# Altium footprint library Mounting_Wuerth.PcbLib: 191 footprints (part 5 of 12)
Each footprint in its own frame and in the unit in brackets; x right, y up, seen from the top. Pads: shape width x height; smd on the part's side, far side on the other; paste and mask are expansions set on the pad; w line width, h text height; cw(c..) or ccw(c..) is an arc to the next point about the centre after c.
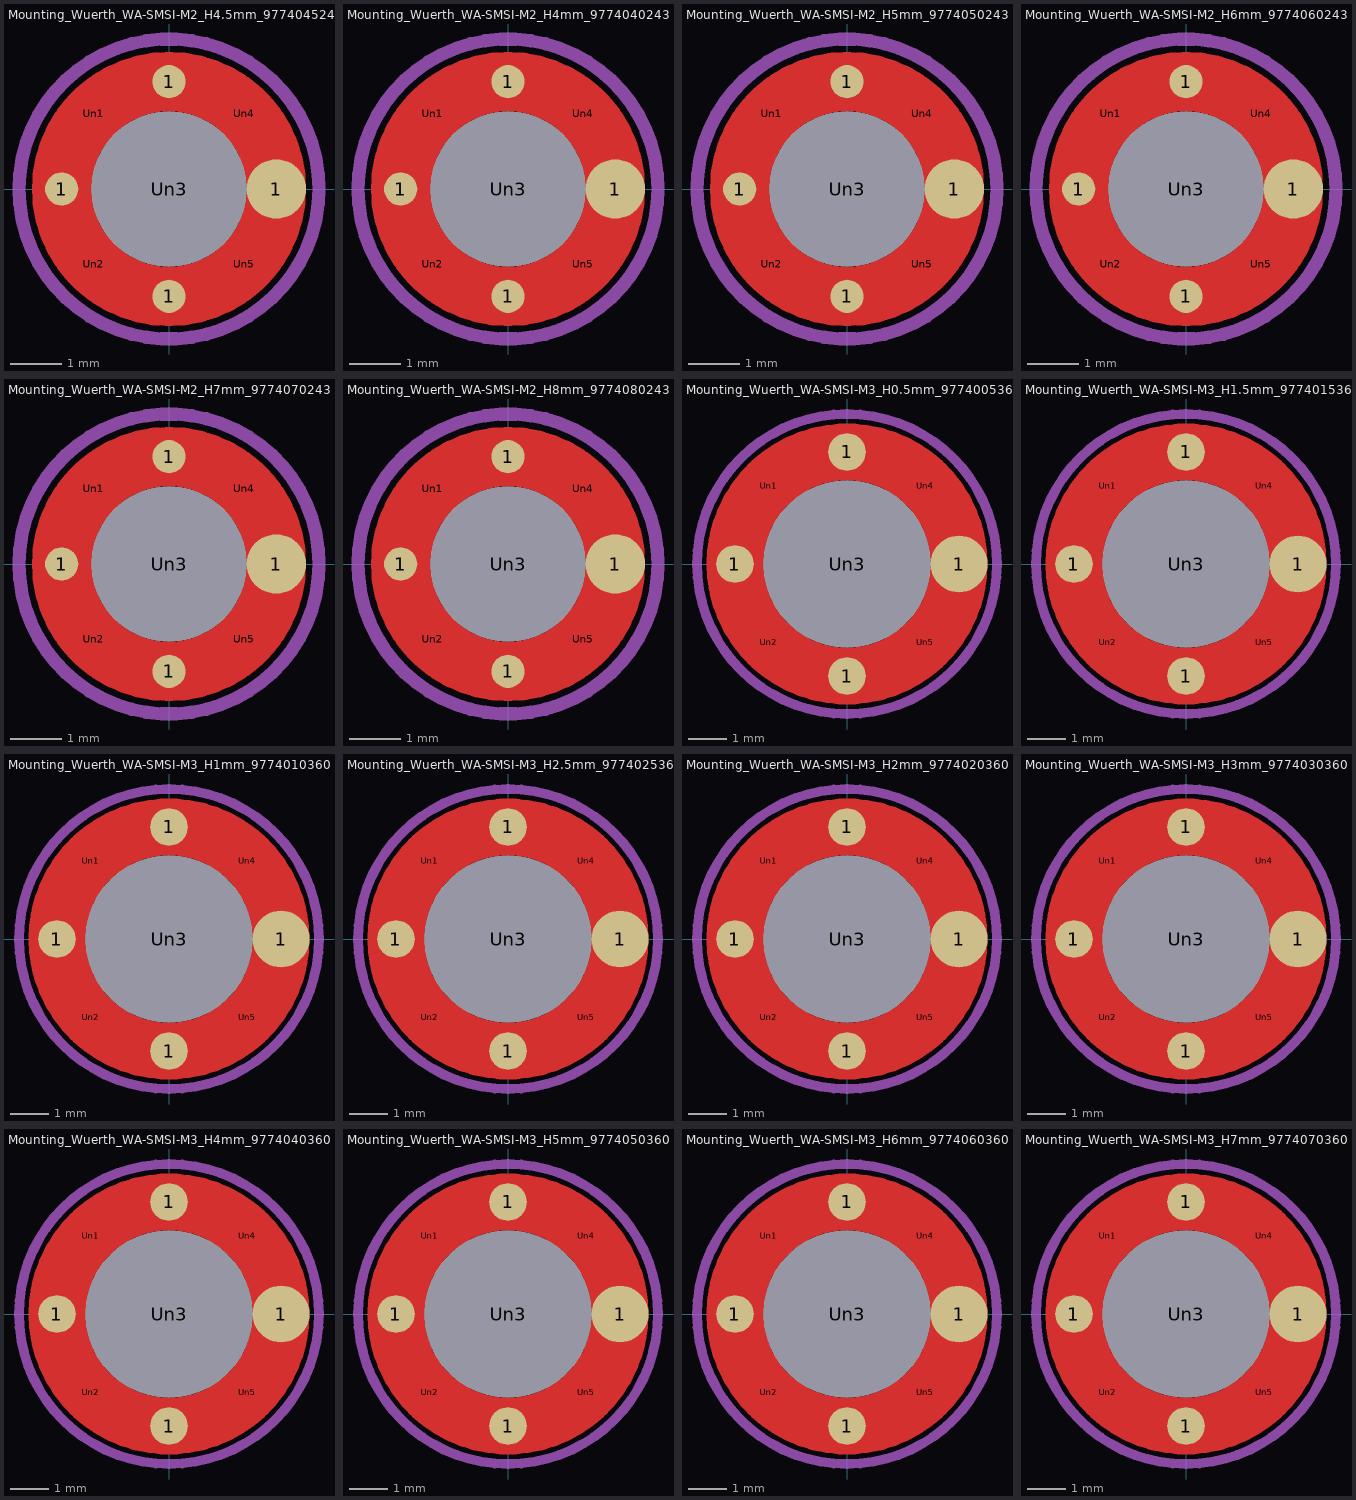
[diagram p4: the footprints below, top view; thin cyan lines are the x and y axes]

## Mounting_Wuerth_WA-SMSI-M2_H4.5mm_9774045243 [mm]
pads (9):
  round 0.642 smd: 1(-2.075,0) 1(0,-2.075) 1(0,2.075)
  round 1.15 smd: 1(2.075,0)
  round 0.505 on Top Paste: Un1(-1.453,1.453) Un2(-1.453,-1.453) Un4(1.453,1.453) Un5(1.453,-1.453)
  round 3 hole 3: Un3(0,0)
F.Cu:
  circle w1.15: c0,0 r2.075
F.Paste:
  lines w0.2: -2.427,-0.4 -1.601,-0.4 ; -2.427,0.4 -1.601,0.4 ; -0.4,-2.427 -0.4,-1.601 ; -0.4,1.601 -0.4,2.427 ; 0.4,-2.427 0.4,-1.601 ; 0.4,1.601 0.4,2.427 ; 1.601,-0.4 2.427,-0.4 ; 1.601,0.4 2.427,0.4
F.Mask:
  circle w1.15: c0,0 r2.075
Top Assembly:
  circle w0.254: c0,0 r2.175
  text "'.Designator'" at -4.047,-0.84 h1
Top Courtyard:
  circle w0.254: c0,0 r2.9
Top Designator:
  text ".Designator" at -7.768,-0.508 h1.52
3D body "Mounting_Wuerth_WA-SMSI-M2_H4.5mm_9774045243.step": height 4.5, standoff -1.4, extent -2.175,-2.172 2.175,2.172

## Mounting_Wuerth_WA-SMSI-M2_H4mm_9774040243 [mm]
pads (9):
  round 0.642 smd: 1(-2.075,0) 1(0,-2.075) 1(0,2.075)
  round 1.15 smd: 1(2.075,0)
  round 0.505 on Top Paste: Un1(-1.453,1.453) Un2(-1.453,-1.453) Un4(1.453,1.453) Un5(1.453,-1.453)
  round 3 hole 3: Un3(0,0)
F.Cu:
  circle w1.15: c0,0 r2.075
F.Paste:
  lines w0.2: -2.427,-0.4 -1.601,-0.4 ; -2.427,0.4 -1.601,0.4 ; -0.4,-2.427 -0.4,-1.601 ; -0.4,1.601 -0.4,2.427 ; 0.4,-2.427 0.4,-1.601 ; 0.4,1.601 0.4,2.427 ; 1.601,-0.4 2.427,-0.4 ; 1.601,0.4 2.427,0.4
F.Mask:
  circle w1.15: c0,0 r2.075
Top Assembly:
  circle w0.254: c0,0 r2.175
  text "'.Designator'" at -4.047,-0.84 h1
Top Courtyard:
  circle w0.254: c0,0 r2.9
Top Designator:
  text ".Designator" at -7.768,-0.508 h1.52
3D body "Mounting_Wuerth_WA-SMSI-M2_H4mm_9774040243.step": height 4, standoff -1.4, extent -2.175,-2.172 2.175,2.172

## Mounting_Wuerth_WA-SMSI-M2_H5mm_9774050243 [mm]
pads (9):
  round 0.642 smd: 1(-2.075,0) 1(0,-2.075) 1(0,2.075)
  round 1.15 smd: 1(2.075,0)
  round 0.505 on Top Paste: Un1(-1.453,1.453) Un2(-1.453,-1.453) Un4(1.453,1.453) Un5(1.453,-1.453)
  round 3 hole 3: Un3(0,0)
F.Cu:
  circle w1.15: c0,0 r2.075
F.Paste:
  lines w0.2: -2.427,-0.4 -1.601,-0.4 ; -2.427,0.4 -1.601,0.4 ; -0.4,-2.427 -0.4,-1.601 ; -0.4,1.601 -0.4,2.427 ; 0.4,-2.427 0.4,-1.601 ; 0.4,1.601 0.4,2.427 ; 1.601,-0.4 2.427,-0.4 ; 1.601,0.4 2.427,0.4
F.Mask:
  circle w1.15: c0,0 r2.075
Top Assembly:
  circle w0.254: c0,0 r2.175
  text "'.Designator'" at -4.047,-0.84 h1
Top Courtyard:
  circle w0.254: c0,0 r2.9
Top Designator:
  text ".Designator" at -7.768,-0.508 h1.52
3D body "Mounting_Wuerth_WA-SMSI-M2_H5mm_9774050243.step": height 5, standoff -1.4, extent -2.175,-2.172 2.175,2.172

## Mounting_Wuerth_WA-SMSI-M2_H6mm_9774060243 [mm]
pads (9):
  round 0.642 smd: 1(-2.075,0) 1(0,-2.075) 1(0,2.075)
  round 1.15 smd: 1(2.075,0)
  round 0.505 on Top Paste: Un1(-1.453,1.453) Un2(-1.453,-1.453) Un4(1.453,1.453) Un5(1.453,-1.453)
  round 3 hole 3: Un3(0,0)
F.Cu:
  circle w1.15: c0,0 r2.075
F.Paste:
  lines w0.2: -2.427,-0.4 -1.601,-0.4 ; -2.427,0.4 -1.601,0.4 ; -0.4,-2.427 -0.4,-1.601 ; -0.4,1.601 -0.4,2.427 ; 0.4,-2.427 0.4,-1.601 ; 0.4,1.601 0.4,2.427 ; 1.601,-0.4 2.427,-0.4 ; 1.601,0.4 2.427,0.4
F.Mask:
  circle w1.15: c0,0 r2.075
Top Assembly:
  circle w0.254: c0,0 r2.175
  text "'.Designator'" at -4.047,-0.84 h1
Top Courtyard:
  circle w0.254: c0,0 r2.9
Top Designator:
  text ".Designator" at -7.768,-0.508 h1.52
3D body "Mounting_Wuerth_WA-SMSI-M2_H6mm_9774060243.step": height 6, standoff -1.4, extent -2.175,-2.172 2.175,2.172

## Mounting_Wuerth_WA-SMSI-M2_H7mm_9774070243 [mm]
pads (9):
  round 0.642 smd: 1(-2.075,0) 1(0,-2.075) 1(0,2.075)
  round 1.15 smd: 1(2.075,0)
  round 0.505 on Top Paste: Un1(-1.453,1.453) Un2(-1.453,-1.453) Un4(1.453,1.453) Un5(1.453,-1.453)
  round 3 hole 3: Un3(0,0)
F.Cu:
  circle w1.15: c0,0 r2.075
F.Paste:
  lines w0.2: -2.427,-0.4 -1.601,-0.4 ; -2.427,0.4 -1.601,0.4 ; -0.4,-2.427 -0.4,-1.601 ; -0.4,1.601 -0.4,2.427 ; 0.4,-2.427 0.4,-1.601 ; 0.4,1.601 0.4,2.427 ; 1.601,-0.4 2.427,-0.4 ; 1.601,0.4 2.427,0.4
F.Mask:
  circle w1.15: c0,0 r2.075
Top Assembly:
  circle w0.254: c0,0 r2.175
  text "'.Designator'" at -4.047,-0.84 h1
Top Courtyard:
  circle w0.254: c0,0 r2.9
Top Designator:
  text ".Designator" at -7.768,-0.508 h1.52
3D body "Mounting_Wuerth_WA-SMSI-M2_H7mm_9774070243.step": height 7, standoff -1.4, extent -2.175,-2.172 2.175,2.172

## Mounting_Wuerth_WA-SMSI-M2_H8mm_9774080243 [mm]
pads (9):
  round 0.642 smd: 1(-2.075,0) 1(0,-2.075) 1(0,2.075)
  round 1.15 smd: 1(2.075,0)
  round 0.505 on Top Paste: Un1(-1.453,1.453) Un2(-1.453,-1.453) Un4(1.453,1.453) Un5(1.453,-1.453)
  round 3 hole 3: Un3(0,0)
F.Cu:
  circle w1.15: c0,0 r2.075
F.Paste:
  lines w0.2: -2.427,-0.4 -1.601,-0.4 ; -2.427,0.4 -1.601,0.4 ; -0.4,-2.427 -0.4,-1.601 ; -0.4,1.601 -0.4,2.427 ; 0.4,-2.427 0.4,-1.601 ; 0.4,1.601 0.4,2.427 ; 1.601,-0.4 2.427,-0.4 ; 1.601,0.4 2.427,0.4
F.Mask:
  circle w1.15: c0,0 r2.075
Top Assembly:
  circle w0.254: c0,0 r2.175
  text "'.Designator'" at -4.047,-0.84 h1
Top Courtyard:
  circle w0.254: c0,0 r2.9
Top Designator:
  text ".Designator" at -7.768,-0.508 h1.52
3D body "Mounting_Wuerth_WA-SMSI-M2_H8mm_9774080243.step": height 8, standoff -1.4, extent -2.175,-2.172 2.175,2.172

## Mounting_Wuerth_WA-SMSI-M3_H0.5mm_9774005360 [mm]
pads (9):
  round 0.992 smd: 1(-2.95,0) 1(0,-2.95) 1(0,2.95)
  round 1.5 smd: 1(2.95,0)
  round 0.55 on Top Paste: Un1(-2.058,2.058) Un2(-2.058,-2.058) Un4(2.058,2.058) Un5(2.058,-2.058)
  round 4.4 hole 4.4: Un3(0,0)
F.Cu:
  circle w1.5: c0,0 r2.95
F.Paste:
  lines w0.2: -3.342,-0.35 -2.435,-0.35 ; -3.342,0.35 -2.435,0.35 ; -0.35,-3.342 -0.35,-2.435 ; -0.35,2.435 -0.35,3.342 ; 0.35,-3.342 0.35,-2.435 ; 0.35,2.435 0.35,3.342 ; 2.435,-0.35 3.342,-0.35 ; 2.435,0.35 3.342,0.35
F.Mask:
  circle w1.5: c0,0 r2.95
Top Assembly:
  circle w0.254: c0,0 r3
  text "'.Designator'" at -4.047,-0.84 h1
Top Courtyard:
  circle w0.254: c0,0 r3.95
Top Designator:
  text ".Designator" at -7.677,-0.508 h1.52

## Mounting_Wuerth_WA-SMSI-M3_H1.5mm_9774015360 [mm]
pads (9):
  round 0.992 smd: 1(-2.95,0) 1(0,-2.95) 1(0,2.95)
  round 1.5 smd: 1(2.95,0)
  round 0.55 on Top Paste: Un1(-2.058,2.058) Un2(-2.058,-2.058) Un4(2.058,2.058) Un5(2.058,-2.058)
  round 4.4 hole 4.4: Un3(0,0)
F.Cu:
  circle w1.5: c0,0 r2.95
F.Paste:
  lines w0.2: -3.342,-0.35 -2.435,-0.35 ; -3.342,0.35 -2.435,0.35 ; -0.35,-3.342 -0.35,-2.435 ; -0.35,2.435 -0.35,3.342 ; 0.35,-3.342 0.35,-2.435 ; 0.35,2.435 0.35,3.342 ; 2.435,-0.35 3.342,-0.35 ; 2.435,0.35 3.342,0.35
F.Mask:
  circle w1.5: c0,0 r2.95
Top Assembly:
  circle w0.254: c0,0 r3
  text "'.Designator'" at -4.047,-0.84 h1
Top Courtyard:
  circle w0.254: c0,0 r3.95
Top Designator:
  text ".Designator" at -7.677,-0.508 h1.52
3D body "Mounting_Wuerth_WA-SMSI-M3_H1.5mm_9774015360.step": height 1.5, standoff -1.4, extent -3,-3 3,3

## Mounting_Wuerth_WA-SMSI-M3_H1mm_9774010360 [mm]
pads (9):
  round 0.992 smd: 1(-2.95,0) 1(0,-2.95) 1(0,2.95)
  round 1.5 smd: 1(2.95,0)
  round 0.55 on Top Paste: Un1(-2.058,2.058) Un2(-2.058,-2.058) Un4(2.058,2.058) Un5(2.058,-2.058)
  round 4.4 hole 4.4: Un3(0,0)
F.Cu:
  circle w1.5: c0,0 r2.95
F.Paste:
  lines w0.2: -3.342,-0.35 -2.435,-0.35 ; -3.342,0.35 -2.435,0.35 ; -0.35,-3.342 -0.35,-2.435 ; -0.35,2.435 -0.35,3.342 ; 0.35,-3.342 0.35,-2.435 ; 0.35,2.435 0.35,3.342 ; 2.435,-0.35 3.342,-0.35 ; 2.435,0.35 3.342,0.35
F.Mask:
  circle w1.5: c0,0 r2.95
Top Assembly:
  circle w0.254: c0,0 r3
  text "'.Designator'" at -4.047,-0.84 h1
Top Courtyard:
  circle w0.254: c0,0 r3.95
Top Designator:
  text ".Designator" at -7.677,-0.508 h1.52
3D body "Mounting_Wuerth_WA-SMSI-M3_H1mm_9774010360.step": height 1, standoff -1.4, extent -3,-3 3,3

## Mounting_Wuerth_WA-SMSI-M3_H2.5mm_9774025360 [mm]
pads (9):
  round 0.992 smd: 1(-2.95,0) 1(0,-2.95) 1(0,2.95)
  round 1.5 smd: 1(2.95,0)
  round 0.55 on Top Paste: Un1(-2.058,2.058) Un2(-2.058,-2.058) Un4(2.058,2.058) Un5(2.058,-2.058)
  round 4.4 hole 4.4: Un3(0,0)
F.Cu:
  circle w1.5: c0,0 r2.95
F.Paste:
  lines w0.2: -3.342,-0.35 -2.435,-0.35 ; -3.342,0.35 -2.435,0.35 ; -0.35,-3.342 -0.35,-2.435 ; -0.35,2.435 -0.35,3.342 ; 0.35,-3.342 0.35,-2.435 ; 0.35,2.435 0.35,3.342 ; 2.435,-0.35 3.342,-0.35 ; 2.435,0.35 3.342,0.35
F.Mask:
  circle w1.5: c0,0 r2.95
Top Assembly:
  circle w0.254: c0,0 r3
  text "'.Designator'" at -4.047,-0.84 h1
Top Courtyard:
  circle w0.254: c0,0 r3.95
Top Designator:
  text ".Designator" at -7.677,-0.508 h1.52
3D body "Mounting_Wuerth_WA-SMSI-M3_H2.5mm_9774025360.step": height 2.5, standoff -1.4, extent -3,-3 3,3

## Mounting_Wuerth_WA-SMSI-M3_H2mm_9774020360 [mm]
pads (9):
  round 0.992 smd: 1(-2.95,0) 1(0,-2.95) 1(0,2.95)
  round 1.5 smd: 1(2.95,0)
  round 0.55 on Top Paste: Un1(-2.058,2.058) Un2(-2.058,-2.058) Un4(2.058,2.058) Un5(2.058,-2.058)
  round 4.4 hole 4.4: Un3(0,0)
F.Cu:
  circle w1.5: c0,0 r2.95
F.Paste:
  lines w0.2: -3.342,-0.35 -2.435,-0.35 ; -3.342,0.35 -2.435,0.35 ; -0.35,-3.342 -0.35,-2.435 ; -0.35,2.435 -0.35,3.342 ; 0.35,-3.342 0.35,-2.435 ; 0.35,2.435 0.35,3.342 ; 2.435,-0.35 3.342,-0.35 ; 2.435,0.35 3.342,0.35
F.Mask:
  circle w1.5: c0,0 r2.95
Top Assembly:
  circle w0.254: c0,0 r3
  text "'.Designator'" at -4.047,-0.84 h1
Top Courtyard:
  circle w0.254: c0,0 r3.95
Top Designator:
  text ".Designator" at -7.677,-0.508 h1.52
3D body "Mounting_Wuerth_WA-SMSI-M3_H2mm_9774020360.step": height 2, standoff -1.4, extent -3,-3 3,3

## Mounting_Wuerth_WA-SMSI-M3_H3mm_9774030360 [mm]
pads (9):
  round 0.992 smd: 1(-2.95,0) 1(0,-2.95) 1(0,2.95)
  round 1.5 smd: 1(2.95,0)
  round 0.55 on Top Paste: Un1(-2.058,2.058) Un2(-2.058,-2.058) Un4(2.058,2.058) Un5(2.058,-2.058)
  round 4.4 hole 4.4: Un3(0,0)
F.Cu:
  circle w1.5: c0,0 r2.95
F.Paste:
  lines w0.2: -3.342,-0.35 -2.435,-0.35 ; -3.342,0.35 -2.435,0.35 ; -0.35,-3.342 -0.35,-2.435 ; -0.35,2.435 -0.35,3.342 ; 0.35,-3.342 0.35,-2.435 ; 0.35,2.435 0.35,3.342 ; 2.435,-0.35 3.342,-0.35 ; 2.435,0.35 3.342,0.35
F.Mask:
  circle w1.5: c0,0 r2.95
Top Assembly:
  circle w0.254: c0,0 r3
  text "'.Designator'" at -4.047,-0.84 h1
Top Courtyard:
  circle w0.254: c0,0 r3.95
Top Designator:
  text ".Designator" at -7.677,-0.508 h1.52
3D body "Mounting_Wuerth_WA-SMSI-M3_H3mm_9774030360.step": height 3, standoff -1.4, extent -3,-3 3,3

## Mounting_Wuerth_WA-SMSI-M3_H4mm_9774040360 [mm]
pads (9):
  round 0.992 smd: 1(-2.95,0) 1(0,-2.95) 1(0,2.95)
  round 1.5 smd: 1(2.95,0)
  round 0.55 on Top Paste: Un1(-2.058,2.058) Un2(-2.058,-2.058) Un4(2.058,2.058) Un5(2.058,-2.058)
  round 4.4 hole 4.4: Un3(0,0)
F.Cu:
  circle w1.5: c0,0 r2.95
F.Paste:
  lines w0.2: -3.342,-0.35 -2.435,-0.35 ; -3.342,0.35 -2.435,0.35 ; -0.35,-3.342 -0.35,-2.435 ; -0.35,2.435 -0.35,3.342 ; 0.35,-3.342 0.35,-2.435 ; 0.35,2.435 0.35,3.342 ; 2.435,-0.35 3.342,-0.35 ; 2.435,0.35 3.342,0.35
F.Mask:
  circle w1.5: c0,0 r2.95
Top Assembly:
  circle w0.254: c0,0 r3
  text "'.Designator'" at -4.047,-0.84 h1
Top Courtyard:
  circle w0.254: c0,0 r3.95
Top Designator:
  text ".Designator" at -7.677,-0.508 h1.52
3D body "Mounting_Wuerth_WA-SMSI-M3_H4mm_9774040360.step": height 4, standoff -1.4, extent -3,-3 3,3

## Mounting_Wuerth_WA-SMSI-M3_H5mm_9774050360 [mm]
pads (9):
  round 0.992 smd: 1(-2.95,0) 1(0,-2.95) 1(0,2.95)
  round 1.5 smd: 1(2.95,0)
  round 0.55 on Top Paste: Un1(-2.058,2.058) Un2(-2.058,-2.058) Un4(2.058,2.058) Un5(2.058,-2.058)
  round 4.4 hole 4.4: Un3(0,0)
F.Cu:
  circle w1.5: c0,0 r2.95
F.Paste:
  lines w0.2: -3.342,-0.35 -2.435,-0.35 ; -3.342,0.35 -2.435,0.35 ; -0.35,-3.342 -0.35,-2.435 ; -0.35,2.435 -0.35,3.342 ; 0.35,-3.342 0.35,-2.435 ; 0.35,2.435 0.35,3.342 ; 2.435,-0.35 3.342,-0.35 ; 2.435,0.35 3.342,0.35
F.Mask:
  circle w1.5: c0,0 r2.95
Top Assembly:
  circle w0.254: c0,0 r3
  text "'.Designator'" at -4.047,-0.84 h1
Top Courtyard:
  circle w0.254: c0,0 r3.95
Top Designator:
  text ".Designator" at -7.677,-0.508 h1.52
3D body "Mounting_Wuerth_WA-SMSI-M3_H5mm_9774050360.step": height 5, standoff -1.4, extent -3,-3 3,3

## Mounting_Wuerth_WA-SMSI-M3_H6mm_9774060360 [mm]
pads (9):
  round 0.992 smd: 1(-2.95,0) 1(0,-2.95) 1(0,2.95)
  round 1.5 smd: 1(2.95,0)
  round 0.55 on Top Paste: Un1(-2.058,2.058) Un2(-2.058,-2.058) Un4(2.058,2.058) Un5(2.058,-2.058)
  round 4.4 hole 4.4: Un3(0,0)
F.Cu:
  circle w1.5: c0,0 r2.95
F.Paste:
  lines w0.2: -3.342,-0.35 -2.435,-0.35 ; -3.342,0.35 -2.435,0.35 ; -0.35,-3.342 -0.35,-2.435 ; -0.35,2.435 -0.35,3.342 ; 0.35,-3.342 0.35,-2.435 ; 0.35,2.435 0.35,3.342 ; 2.435,-0.35 3.342,-0.35 ; 2.435,0.35 3.342,0.35
F.Mask:
  circle w1.5: c0,0 r2.95
Top Assembly:
  circle w0.254: c0,0 r3
  text "'.Designator'" at -4.047,-0.84 h1
Top Courtyard:
  circle w0.254: c0,0 r3.95
Top Designator:
  text ".Designator" at -7.677,-0.508 h1.52
3D body "Mounting_Wuerth_WA-SMSI-M3_H6mm_9774060360.step": height 6, standoff -1.4, extent -3,-3 3,3

## Mounting_Wuerth_WA-SMSI-M3_H7mm_9774070360 [mm]
pads (9):
  round 0.992 smd: 1(-2.95,0) 1(0,-2.95) 1(0,2.95)
  round 1.5 smd: 1(2.95,0)
  round 0.55 on Top Paste: Un1(-2.058,2.058) Un2(-2.058,-2.058) Un4(2.058,2.058) Un5(2.058,-2.058)
  round 4.4 hole 4.4: Un3(0,0)
F.Cu:
  circle w1.5: c0,0 r2.95
F.Paste:
  lines w0.2: -3.342,-0.35 -2.435,-0.35 ; -3.342,0.35 -2.435,0.35 ; -0.35,-3.342 -0.35,-2.435 ; -0.35,2.435 -0.35,3.342 ; 0.35,-3.342 0.35,-2.435 ; 0.35,2.435 0.35,3.342 ; 2.435,-0.35 3.342,-0.35 ; 2.435,0.35 3.342,0.35
F.Mask:
  circle w1.5: c0,0 r2.95
Top Assembly:
  circle w0.254: c0,0 r3
  text "'.Designator'" at -4.047,-0.84 h1
Top Courtyard:
  circle w0.254: c0,0 r3.95
Top Designator:
  text ".Designator" at -7.677,-0.508 h1.52
3D body "Mounting_Wuerth_WA-SMSI-M3_H7mm_9774070360.step": height 7, standoff -1.4, extent -3,-3 3,3